# Altium footprint library 691 242 710 0xx.PcbLib: 7 footprints
Each footprint in its own frame and in the unit in brackets; x right, y up, seen from the top. Pads: shape width x height; smd on the part's side, far side on the other; paste and mask are expansions set on the pad; w line width, h text height; cw(c..) or ccw(c..) is an arc to the next point about the centre after c.
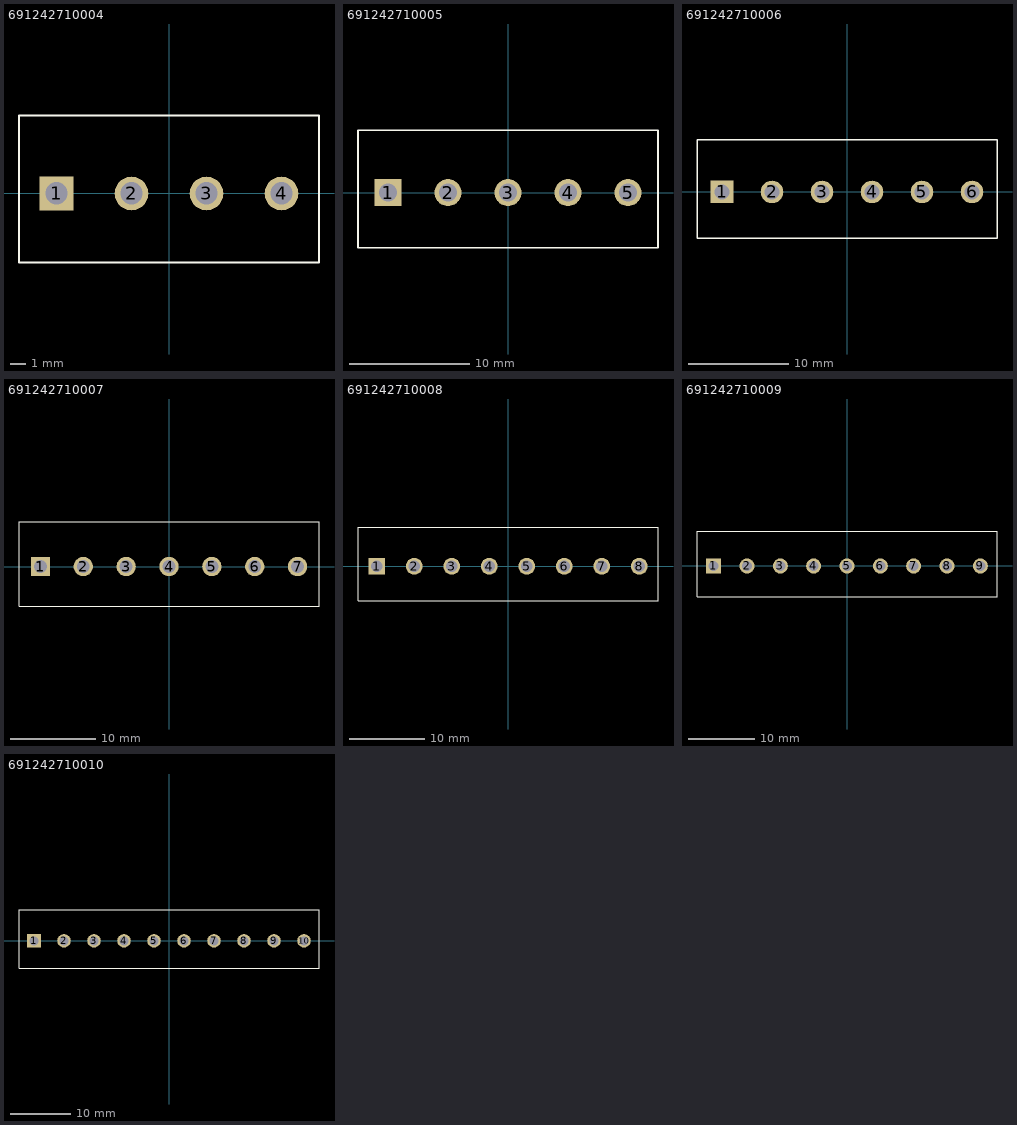
[diagram p0: the footprints below, top view; thin cyan lines are the x and y axes]

## 691242710004 [mm] "Serie 2427 - 5.00 mm_4 pins"
height 13.8
pads (4):
  rect 2.25x2.25 hole 1.5: 1(-7.5,0)
  round 2.25 hole 1.5: 2(-2.5,0) 3(2.5,0) 4(7.5,0)
Top Overlay:
  lines w0.127: -10,-4.6 10,-4.6 10,5.2 -10,5.2 -10,-4.6
3D body: height 13.8, standoff -3.5, extent -10,-4.6 10,5.2

## 691242710005 [mm] "Serie 2427 - 5.00 mm_5 pins"
height 13.8
pads (5):
  rect 2.25x2.25 hole 1.5: 1(-10,0)
  round 2.25 hole 1.5: 2(-5,0) 3(0,0) 4(5,0) 5(10,0)
Top Overlay:
  lines w0.127: -12.5,-4.6 12.5,-4.6 12.5,5.2 -12.5,5.2 -12.5,-4.6
3D body: height 13.8, standoff -3.5, extent -12.5,-4.6 12.5,5.2

## 691242710006 [mm] "Serie 2427 - 5.00 mm_6 pins"
height 13.8
pads (6):
  rect 2.25x2.25 hole 1.5: 1(-12.5,0)
  round 2.25 hole 1.5: 2(-7.5,0) 3(-2.5,0) 4(2.5,0) 5(7.5,0) 6(12.5,0)
Top Overlay:
  lines w0.127: -15,-4.6 15,-4.6 15,5.2 -15,5.2 -15,-4.6
3D body: height 13.8, standoff -3.5, extent -15,-4.6 15,5.2

## 691242710007 [mm] "Serie 2427 - 5.00 mm_7 pins"
height 13.8
pads (7):
  rect 2.25x2.25 hole 1.5: 1(-15,0)
  round 2.25 hole 1.5: 2(-10,0) 3(-5,0) 4(0,0) 5(5,0) 6(10,0) 7(15,0)
Top Overlay:
  lines w0.127: -17.5,-4.6 17.5,-4.6 17.5,5.2 -17.5,5.2 -17.5,-4.6
3D body: height 13.8, standoff -3.5, extent -17.5,-4.6 17.5,5.2

## 691242710008 [mm] "Serie 2427 - 5.00 mm_8 pins"
height 13.8
pads (8):
  rect 2.25x2.25 hole 1.5: 1(-17.5,0)
  round 2.25 hole 1.5: 2(-12.5,0) 3(-7.5,0) 4(-2.5,0) 5(2.5,0) 6(7.5,0) 7(12.5,0) 8(17.5,0)
Top Overlay:
  lines w0.127: -20,-4.6 20,-4.6 20,5.2 -20,5.2 -20,-4.6
3D body: height 13.8, standoff -3.5, extent -20,-4.6 20,5.2

## 691242710009 [mm] "Serie 2427 - 5.00 mm_9 pins"
height 13.8
pads (9):
  rect 2.25x2.25 hole 1.5: 1(-20,0)
  round 2.25 hole 1.5: 2(-15,0) 3(-10,0) 4(-5,0) 5(0,0) 6(5,0) 7(10,0) 8(15,0) 9(20,0)
Top Overlay:
  lines w0.127: -22.5,-4.6 22.5,-4.6 22.5,5.2 -22.5,5.2 -22.5,-4.6
3D body: height 13.8, standoff -3.5, extent -22.5,-4.6 22.5,5.2

## 691242710010 [mm] "Serie 2427 - 5.00 mm_10 pins"
height 13.8
pads (10):
  rect 2.25x2.25 hole 1.5: 1(-22.5,0)
  round 2.25 hole 1.5: 2(-17.5,0) 3(-12.5,0) 4(-7.5,0) 5(-2.5,0) 6(2.5,0) 7(7.5,0) 8(12.5,0) 9(17.5,0) 10(22.5,0)
Top Overlay:
  lines w0.127: -25,-4.6 -25,5.2 25,5.2 25,-4.6 -25,-4.6
3D body: height 13.8, standoff -3.5, extent -25,-4.6 25,5.2